# EAGLE library part TPS63031DSKT (library TPS63031 - Buck Boost Voltage Regulator)
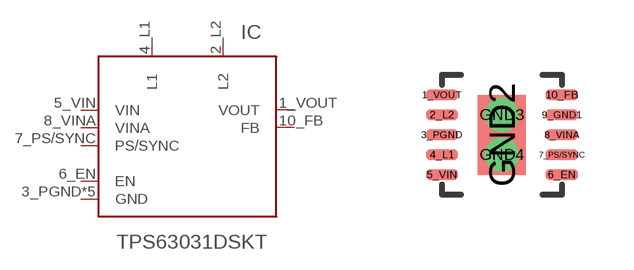
[diagram p0: symbol with the pads of SMT; footprint SMT]

Designator prefix IC

## TPS63031DSKT  [SMT]
1_VOUT  VOUT  pwr
2_L2  L2  pas
3_PGND  GND  pwr
4_L1  L1  pas
5_VIN  VIN  pwr
6_EN  EN  in
7_PS/SYNC  PS/SYNC  in
8_VINA  VINA  pas
9_GND1  GND  pwr
10_FB  FB  in
GND2  GND  pwr
GND3  GND  pwr
GND4  GND  pwr

## Footprint SMT (pad centres in mm)
smd 0.8 x 0.28: 1_VOUT -1.5,1; 2_L2 -1.5,0.5; 3_PGND -1.5,0; 4_L1 -1.5,-0.5; 5_VIN -1.5,-1; 6_EN 1.5,-1; 7_PS/SYNC 1.5,-0.5; 8_VINA 1.5,0; 9_GND1 1.5,0.5; 10_FB 1.5,1
smd 1.2 x 2: GND2 0,0
drill 0.35 pad 0.61: GND3 0,0.5; GND4 0,-0.5